# EAGLE library part FTDI-PROG (library synfinatic)
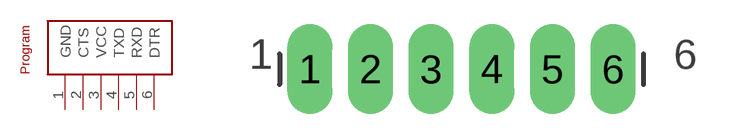
[diagram p3: symbol with the pads of PROG-HEADER; footprint PROG-HEADER]

Designator prefix -

## FTDI-PROG  [PROG-HEADER]
1  GND  pwr
2  CTS  pwr
3  VCC  pwr
4  TXD  out
5  RXD  in
6  DTR  out

## Footprint PROG-HEADER (pad centres in mm)
drill 1.016 pad 1.88 long: 1 -6.35,0; 2 -3.81,0; 3 -1.27,0; 4 1.27,0; 5 3.81,0; 6 6.35,0